# Altium schematic symbol library TD301D485H-AB.SchLib: 1 symbol
Pins are listed as number, name and electrical type; pins without a type are passive.

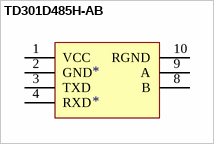
[diagram p0: symbol TD301D485H-AB]

## TD301D485H-AB
designator *
pins: 1 VCC, 2 GND, 3 TXD, 4 RXD, 8 B, 9 A, 10 RGND